# Altium footprint library yaokong.PcbLib: 21 footprints (part 2 of 2)
Each footprint in its own frame and in the unit in brackets; x right, y up, seen from the top. Pads: shape width x height; smd on the part's side, far side on the other; paste and mask are expansions set on the pad; w line width, h text height; cw(c..) or ccw(c..) is an arc to the next point about the centre after c.
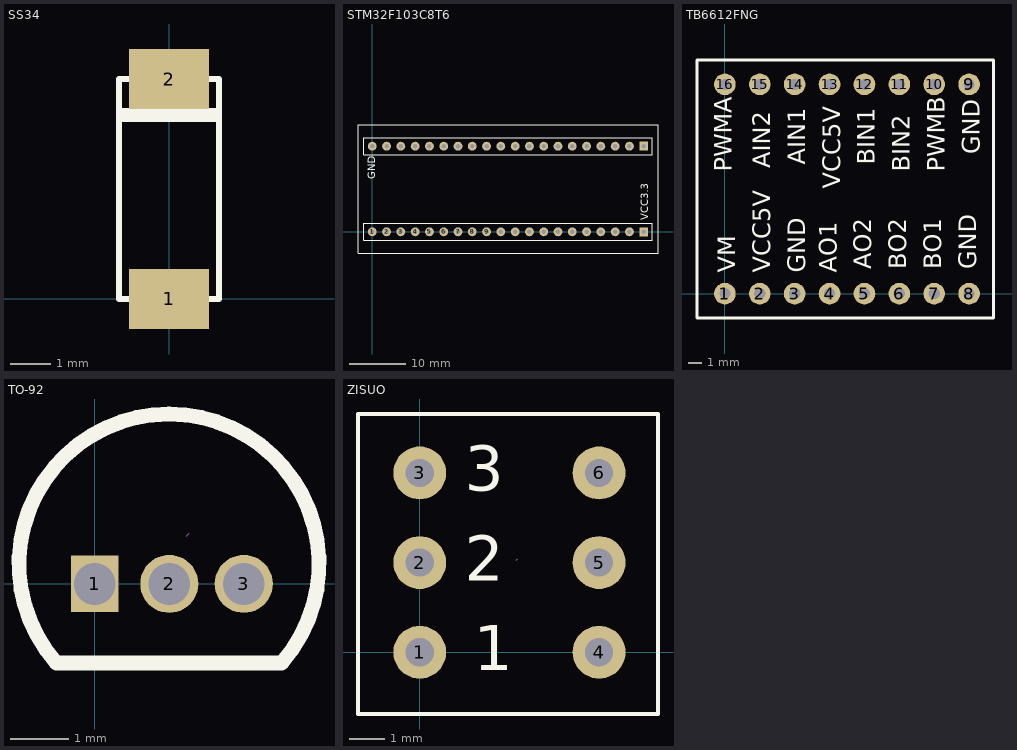
[diagram p1: the footprints below, top view; thin cyan lines are the x and y axes]

## SS34 [mm]
pads (2):
  rect 2x1.5 smd: 1(0,0) 2(0,5.5)
Top Overlay:
  lines w0.15: -1.25,4.5 1.25,4.5 ; -1.25,4.6 1.25,4.6 ; -1.25,4.7 1.25,4.7 ; -1.25,0 1.25,0 1.25,5.5 -1.25,5.5 -1.25,0

## STM32F103C8T6 [mil]
pads (40):
  round 62 hole 32: 1(0,0) 2(100,0) 3(200,0) 4(300,0) 5(400,0) 6(500,0) 7(600,0) 8(700,0) 9(800,0) 10(900,0) 11(1000,0) 12(1100,0) 13(1200,0) 14(1300,0) 15(1400,0) 16(1500,0) 17(1600,0) 18(1700,0) 19(1800,0) 22(1800,600) 23(1700,600) 24(1600,600) 25(1500,600) 26(1400,600) 27(1300,600) 28(1200,600) 29(1100,600) 30(1000,600) 31(900,600) 32(800,600) 33(700,600) 34(600,600) 35(500,600) 36(400,600) 37(300,600) 38(200,600) 39(100,600) 40(0,600)
  rect 62x62 hole 32: 20(1900,0) 21(1900,600)
Top Overlay:
  lines w7.87: -100,-150 2000,-150 2000,750 -100,750 -100,-150 ; -60,-60 1960,-60 1960,60 -60,60 -60,-60 ; -60,540 1960,540 1960,660 -60,660 -60,540
  text "GND" at 20,370 h50
  text "VCC3.3" at 1930,80 h50

## TB6612FNG [mil]
pads (16):
  round 62 hole 32: 1(0,0) 2(100,0) 3(200,0) 4(300,0) 5(400,0) 6(500,0) 7(600,0) 8(700,0) 9(700,600) 10(600,600) 11(500,600) 12(400,600) 13(300,600) 14(200,600) 15(100,600) 16(0,600)
Top Overlay:
  lines w7.87: -80,-70 770,-70 770,670 -80,670 -80,-70
  text "PWMA" at 20,350 h50
  text "AIN2" at 130,360 h50
  text "AIN1" at 230,370 h50
  text "VCC5V" at 330,300 h50
  text "BIN1" at 430,370 h50
  text "BIN2" at 530,350 h50
  text "PWMB" at 630,350 h50
  text "GND" at 730,400 h50
  text "GND" at 720,70 h50
  text "BO1" at 620,70 h50
  text "BO2" at 520,70 h50
  text "AO2" at 420,70 h50
  text "AO1" at 320,60 h50
  text "GND" at 230,60 h50
  text "VCC5V" at 130,60 h50
  text "VM" at 30,60 h50

## TO-92 [mil]
pads (3):
  rect 32x38 hole 28: 1(0,0)
  round 39 hole 28: 2(50,0) 3(100,0)
Top Overlay:
  lines w10: -26.2,-52.7 cw(c49.8,13.36) 125.8,-52.7 ; -25.8,-53.1 125.4,-53.1
Mechanical 15:
  lines w0.1: 61.3,31.98 63.3,33.98

## ZISUO [mil]
pads (6):
  round 59.06 hole 31.5: 1(0,0) 2(0,100) 3(0,200) 4(200,0) 5(200,100) 6(200,200)
Top Overlay:
  lines w3.94: -68.9,-68.9 -39.37,-68.9 236.22,-68.9 265.75,-68.9 265.75,-39.37 265.75,236.22 265.75,265.75 236.22,265.75 -39.37,265.75 -68.9,265.75 -68.9,226.38 -68.9,-9.84 -68.9,-68.9
  text "3" at 50,180 h50
  text "2" at 50,80 h50
  text "1" at 60,-20 h50
Mechanical 15:
  lines w0.1: 107.42,102.42 109.42,104.42